# Altium footprint library WG12864A.PcbLib: 1 footprints
Each footprint in its own frame and in the unit in brackets; x right, y up, seen from the top. Pads: shape width x height; smd on the part's side, far side on the other; paste and mask are expansions set on the pad; w line width, h text height; cw(c..) or ccw(c..) is an arc to the next point about the centre after c.
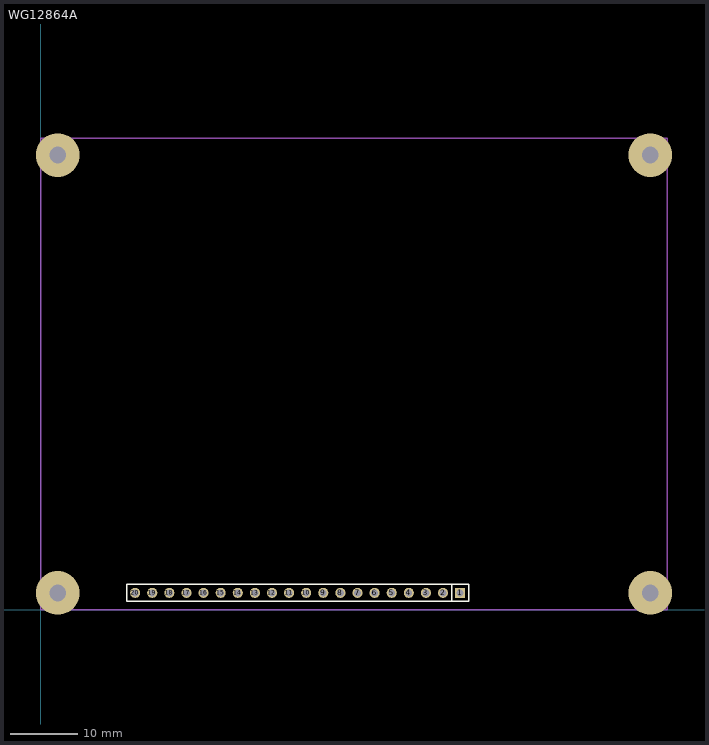
[diagram p0: the footprint, top view; thin cyan lines are the x and y axes]

## WG12864A [mm]
pads (24):
  rect 1.5x1.5 hole 1.016: 1(62.26,2.5)
  round 1.5 hole 1.016: 2(59.72,2.5) 3(57.18,2.5) 4(54.64,2.5) 5(52.1,2.5) 6(49.56,2.5) 7(47.02,2.5) 8(44.48,2.5) 9(41.94,2.5) 10(39.4,2.5) 11(36.86,2.5) 12(34.32,2.5) 13(31.78,2.5) 14(29.24,2.5) 15(26.7,2.5) 16(24.16,2.5) 17(21.62,2.5) 18(19.08,2.5) 19(16.54,2.5) 20(14,2.5)
  round 6.5 hole 2.5: ""(2.5,2.5) ""(2.5,67.5) ""(90.5,2.5) ""(90.5,67.5)
Top Overlay:
  lines w0.2: 60.99,1.23 60.99,3.77 ; 12.73,1.23 12.73,3.77 63.53,3.77 63.53,1.23 12.73,1.23
Mechanical 1:
  circle w0.254: c90.5,2.5 r1.25
  circle w0.254: c90.5,67.5 r1.25
  circle w0.254: c2.5,67.5 r1.25
  circle w0.254: c2.5,2.5 r1.25
  lines w0.254: 0,0 0,70 93,70 93,0 0,0
3D body: height 14.2, standoff 2.5, extent 12.656,1.332 63.706,3.832
3D body: height 8.38, standoff -2.54, extent 12.73,1.23 22.89,3.77
3D body: height 8.38, standoff -2.54, extent 22.89,1.23 33.05,3.77
3D body: height 8.38, standoff -2.54, extent 33.05,1.23 43.21,3.77
3D body: height 8.38, standoff -2.54, extent 43.21,1.23 53.37,3.77
3D body: height 8.38, standoff -2.54, extent 53.37,1.23 63.53,3.77
3D body: height 21.54, standoff 7.94, extent 0.121,0.146 93.121,70.146